# Altium schematic symbol library RT0603BRD0735K2L.SchLib: 1 symbol
Pins are listed as number, name and electrical type; pins without a type are passive.

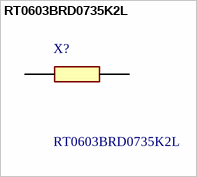
[diagram p0: symbol RT0603BRD0735K2L]

## RT0603BRD0735K2L
designator X?
35.2 kOhms +/-0.1% 0.1W, 1/10W Chip Resistor 0603 (1608 Metric) Thin Film; Manufacturer_Name: Yageo Group; Geometry.Height: 0.55mm; Mouser Part Number: *; Mouser Price/Stock: *; Manufacturer_Part_Number: RT0603BRD0735K2L; Datasheet Link: https://datasheet.datasheetarchive.com/originals/distributors/Datasheets_SAMA/a1f8f48f216d234b3e6a96d43a77a0c1.pdf
footprint RESC1608X55N
pins: 1, 2